# Altium footprint library STX35013N.PcbLib: 1 footprints
Each footprint in its own frame and in the unit in brackets; x right, y up, seen from the top. Pads: shape width x height; smd on the part's side, far side on the other; paste and mask are expansions set on the pad; w line width, h text height; cw(c..) or ccw(c..) is an arc to the next point about the centre after c.
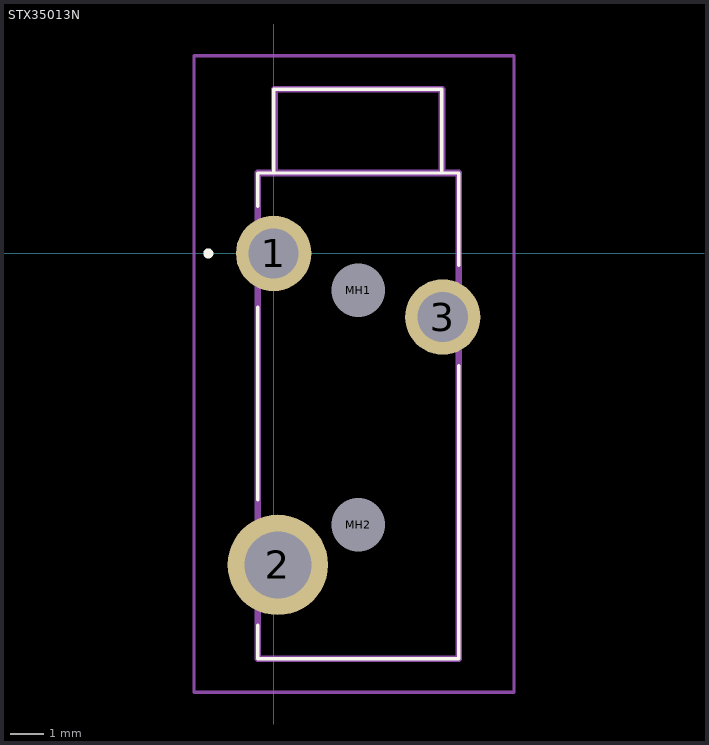
[diagram p0: the footprint, top view; thin cyan lines are the x and y axes]

## STX35013N [mm]
pads (5):
  round 2.25 hole 1.5: 1(0,0) 3(5.05,-1.9)
  round 3 hole 2: 2(0.125,-9.3)
  round 0.8 hole 1.6 unplated: MH1(2.525,-1.1) MH2(2.525,-8.1)
Top Overlay:
  lines w0.1: -0.475,-12.1 5.525,-12.1 ; -0.475,-12.1 -0.475,-12.1 ; -0.475,-12.1 5.525,-12.1 ; -0.475,-12.1 -0.475,-12.1 ; -0.475,-12.1 -0.475,-11.1 ; -0.475,-12.1 -0.475,-11.1 ; -0.475,-11.1 -0.475,-11.1 ; -0.475,-7.35 -0.475,-7.35 ; -0.475,-7.35 -0.475,-1.6 ; -0.475,-7.35 -0.475,-1.6 ; -0.475,-1.6 -0.475,-1.6 ; -0.475,1.4 -0.475,1.4 ; -0.475,1.4 -0.475,2.4 ; -0.475,1.4 -0.475,2.4 ; -0.475,2.4 -0.475,2.4 ; -0.475,2.4 0,2.4 ; -0.475,2.4 0,2.4 ; -0.475,2.4 -0.475,2.4 ; 0,2.4 0,2.4 ; 0,2.4 5.025,2.4 5.025,4.9 0,4.9 0,2.4 ; 5.05,2.4 5.525,2.4 ; 5.05,2.4 5.525,2.4 ; 5.05,2.4 5.05,2.4 ; 5.525,-12.1 5.525,-3.35 ; 5.525,-12.1 5.525,-12.1 ; 5.525,-12.1 5.525,-3.35 ; 5.525,-12.1 5.525,-12.1 ; 5.525,-3.35 5.525,-3.35 ; 5.525,-0.35 5.525,2.4 ; 5.525,-0.35 5.525,-0.35 ; 5.525,-0.35 5.525,2.4 ; 5.525,2.4 5.525,2.4 ; 5.525,2.4 5.525,2.4
  lines w0.2: -2,0 -2,0 ; -2,0 ccw(c-1.95,0) -1.9,0 ; -2,0 cw(c-1.95,0) -1.9,0 ; -2,0 -2,0 ; -2,0 ccw(c-1.95,0) -1.9,0 ; -1.9,0 -1.9,0
Mechanical 15:
  lines w0.2: -0.475,-12.1 5.525,-12.1 5.525,2.4 -0.475,2.4 -0.475,-12.1 ; 0.025,2.4 5.025,2.4 5.025,4.9 0.025,4.9 0.025,2.4
Mechanical 20:
  lines w0.1: -2.375,-13.1 7.175,-13.1 7.175,5.9 -2.375,5.9 -2.375,-13.1